# EAGLE library part NOK_5110_LCD (library badge-custom)
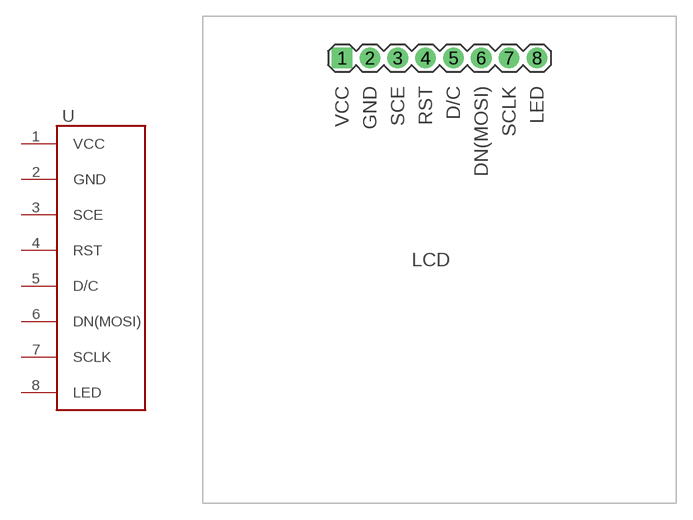
[diagram p0: symbol with the pads of 1X08; footprint 1X08]

Designator prefix -

## NOK_5110_LCD  [1X08]
1  VCC
2  GND
3  SCE
4  RST
5  D/C
6  DN(MOSI)
7  SCLK
8  LED

## Footprint 1X08 (pad centres in mm)
drill 1.016 pad 1.88 square: 1 0,0
drill 1.016 pad 1.88: 2 2.54,0; 3 5.08,0; 4 7.62,0; 5 10.16,0; 6 12.7,0; 7 15.24,0; 8 17.78,0